# Altium schematic symbol library Connectivity.SchLib: 1 symbol
Pins are listed as number, name and electrical type; pins without a type are passive.

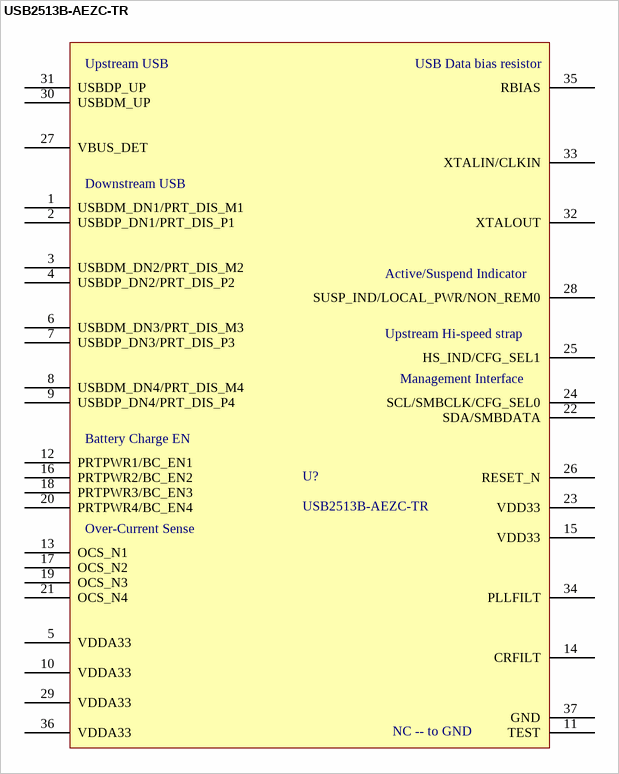
[diagram p0: symbol USB2513B-AEZC-TR]

## USB2513B-AEZC-TR
designator U?
USB Hub Controller USB 2.0 USB Interface 36-QFN (6x6); Supplier 1: Digi-Key; Supplier 2: Mouser; Supplier Part Number 1: USB2513B-AEZC-CT-ND; Supplier Part Number 2: 886-USB2513B-AEZCTR
footprint USB2513B - QFN50P600X600X100_HS-37M (QFN, 36-Leads, Body 6.00x6.00mm, Pitch 0.50mm, Thermal Pad 3.70x3.70mm, IPC Low Density)
pins: 1 USBDM_DN1/PRT_DIS_M1, 2 USBDP_DN1/PRT_DIS_P1, 3 USBDM_DN2/PRT_DIS_M2, 4 USBDP_DN2/PRT_DIS_P2, 5 VDDA33, 6 USBDM_DN3/PRT_DIS_M3, 7 USBDP_DN3/PRT_DIS_P3, 8 USBDM_DN4/PRT_DIS_M4, 9 USBDP_DN4/PRT_DIS_P4, 10 VDDA33, 11 TEST, 12 PRTPWR1/BC_EN1, 13 OCS_N1, 14 CRFILT, 15 VDD33, 16 PRTPWR2/BC_EN2, 17 OCS_N2, 18 PRTPWR3/BC_EN3, 19 OCS_N3, 20 PRTPWR4/BC_EN4, 21 OCS_N4, 22 SDA/SMBDATA, 23 VDD33, 24 SCL/SMBCLK/CFG_SEL0, 25 HS_IND/CFG_SEL1, 26 RESET_N, 27 VBUS_DET, 28 SUSP_IND/LOCAL_PWR/NON_REM0, 29 VDDA33, 30 USBDM_UP, 31 USBDP_UP, 32 XTALOUT, 33 XTALIN/CLKIN, 34 PLLFILT, 35 RBIAS, 36 VDDA33, 37 GND
text: Upstream USB; USB Data bias resistor; Downstream USB; Active/Suspend Indicator; Upstream Hi-speed strap; Management Interface; Battery Charge EN; Over-Current Sense; NC -- to GND